# Altium integrated library Wieson HDMI.IntLib: 6 symbols
Pins are listed as number, name and electrical type; pins without a type are passive.

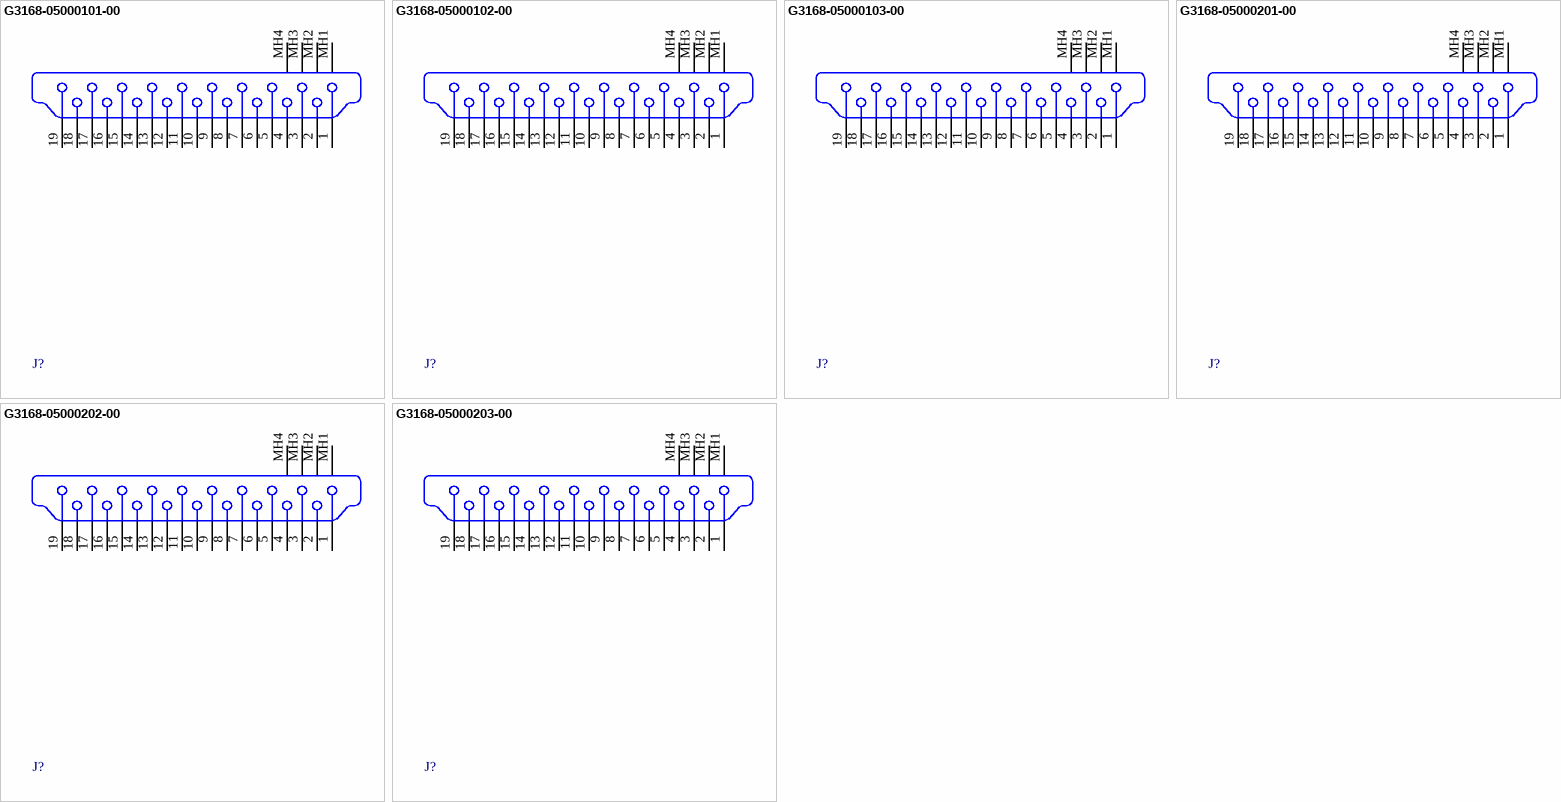
[diagram p0: symbols G3168-05000101-00 to G3168-05000203-00]

## G3168-05000101-00
designator J?
mini-HDMI ver1.3 Type C, Surface Mount, 19-Position, 3u" Au Terminal Plating, without Post; PCB_Layout: Complies with manufacturer's recommendation.; Published: 21-Sep-2007; DatasheetVersion: rev1, Nov-2006; PackageReference: mini-HDMI; Publisher: Altium Limited; PackageDescription: HDMI 1.3 Type C, SM, 19 Position, Female, Right Angle, Body 7.9 x 11.2 x 3.3 mm (LxWxH); ComponentLink1Description: Manufacturer Link; ComponentLink1URL: http://www.wieson.com/; ComponentLink2Description: Datasheet; ComponentLink2URL: http://www.wieson.com/drawing_dwn.php?ID=990&Field=ProImg
footprint mini-HDMI (Connector; mini-HDMI, SM, 19 Position, Right Angle, Body 7.9 x 11.2 x 3.3 mm (LxWxH))
signal-integrity model HDMI
pins: 1 "TMDS Data2+", 2 "TMDS Data2 Shield", 3 "TMDS Data2-", 4 "TMDS Data1+", 5 "TMDS Data1 Shield", 6 "TMDS Data1-", 7 "TMDS Data0+", 8 "TMDS Data0 Shield", 9 "TMDS Data0-", 10 "TMDS Clock+", 11 "TMDS Clock Shield", 12 "TMDS Clock-", 13 "CEC", 14 "Reserved (N/C on device)", 15 "SCL", 16 "SDA", 17 "DDC/CEC Ground", 18 "+5V Power", 19 "Hot Plug Detect", MH1 "Ground Plane (Shell)", MH2 "Ground Plane (Shell)", MH3 "Ground Plane (Shell)", MH4 "Ground Plane (Shell)"

## G3168-05000102-00
designator J?
mini-HDMI ver1.3 Type C, Surface Mount, 19-Position, 15u" Au Terminal Plating, without Post; PCB_Layout: Complies with manufacturer's recommendation.; Published: 21-Sep-2007; DatasheetVersion: rev1, Nov-2006; PackageReference: mini-HDMI; Publisher: Altium Limited; PackageDescription: HDMI 1.3 Type C, SM, 19 Position, Female, Right Angle, Body 7.9 x 11.2 x 3.3 mm (LxWxH); ComponentLink1Description: Manufacturer Link; ComponentLink1URL: http://www.wieson.com/; ComponentLink2Description: Datasheet; ComponentLink2URL: http://www.wieson.com/drawing_dwn.php?ID=990&Field=ProImg
footprint mini-HDMI (Connector; mini-HDMI, SM, 19 Position, Right Angle, Body 7.9 x 11.2 x 3.3 mm (LxWxH))
signal-integrity model HDMI
pins: 1 "TMDS Data2+", 2 "TMDS Data2 Shield", 3 "TMDS Data2-", 4 "TMDS Data1+", 5 "TMDS Data1 Shield", 6 "TMDS Data1-", 7 "TMDS Data0+", 8 "TMDS Data0 Shield", 9 "TMDS Data0-", 10 "TMDS Clock+", 11 "TMDS Clock Shield", 12 "TMDS Clock-", 13 "CEC", 14 "Reserved (N/C on device)", 15 "SCL", 16 "SDA", 17 "DDC/CEC Ground", 18 "+5V Power", 19 "Hot Plug Detect", MH1 "Ground Plane (Shell)", MH2 "Ground Plane (Shell)", MH3 "Ground Plane (Shell)", MH4 "Ground Plane (Shell)"

## G3168-05000103-00
designator J?
mini-HDMI ver1.3 Type C, Surface Mount, 19-Position, 30u" Au Terminal Plating, without Post; PCB_Layout: Complies with manufacturer's recommendation.; Published: 21-Sep-2007; DatasheetVersion: rev1, Nov-2006; PackageReference: mini-HDMI; Publisher: Altium Limited; PackageDescription: HDMI 1.3 Type C, SM, 19 Position, Female, Right Angle, Body 7.9 x 11.2 x 3.3 mm (LxWxH); ComponentLink1Description: Manufacturer Link; ComponentLink1URL: http://www.wieson.com/; ComponentLink2Description: Datasheet; ComponentLink2URL: http://www.wieson.com/drawing_dwn.php?ID=990&Field=ProImg
footprint mini-HDMI (Connector; mini-HDMI, SM, 19 Position, Right Angle, Body 7.9 x 11.2 x 3.3 mm (LxWxH))
signal-integrity model HDMI
pins: 1 "TMDS Data2+", 2 "TMDS Data2 Shield", 3 "TMDS Data2-", 4 "TMDS Data1+", 5 "TMDS Data1 Shield", 6 "TMDS Data1-", 7 "TMDS Data0+", 8 "TMDS Data0 Shield", 9 "TMDS Data0-", 10 "TMDS Clock+", 11 "TMDS Clock Shield", 12 "TMDS Clock-", 13 "CEC", 14 "Reserved (N/C on device)", 15 "SCL", 16 "SDA", 17 "DDC/CEC Ground", 18 "+5V Power", 19 "Hot Plug Detect", MH1 "Ground Plane (Shell)", MH2 "Ground Plane (Shell)", MH3 "Ground Plane (Shell)", MH4 "Ground Plane (Shell)"

## G3168-05000201-00
designator J?
mini-HDMI ver1.3 Type C, Surface Mount, 19-Position, 3u" Au Terminal Plating, with Post; PCB_Layout: Complies with manufacturer's recommendation.; Published: 21-Sep-2007; DatasheetVersion: rev1, Nov-2006; PackageReference: mini-HDMI_post; Publisher: Altium Limited; PackageDescription: HDMI 1.3 Type C, SM, 19 Position, Female, Right Angle, Body 7.9 x 11.2 x 3.3 mm (LxWxH); ComponentLink1Description: Manufacturer Link; ComponentLink1URL: http://www.wieson.com/; ComponentLink2Description: Datasheet; ComponentLink2URL: http://www.wieson.com/drawing_dwn.php?ID=990&Field=ProImg
footprint mini-HDMI_post (Connector; mini-HDMI, SM, 19 Position, Right Angle, Body 7.9 x 11.2 x 3.3 mm (LxWxH), post)
signal-integrity model HDMI
pins: 1 "TMDS Data2+", 2 "TMDS Data2 Shield", 3 "TMDS Data2-", 4 "TMDS Data1+", 5 "TMDS Data1 Shield", 6 "TMDS Data1-", 7 "TMDS Data0+", 8 "TMDS Data0 Shield", 9 "TMDS Data0-", 10 "TMDS Clock+", 11 "TMDS Clock Shield", 12 "TMDS Clock-", 13 "CEC", 14 "Reserved (N/C on device)", 15 "SCL", 16 "SDA", 17 "DDC/CEC Ground", 18 "+5V Power", 19 "Hot Plug Detect", MH1 "Ground Plane (Shell)", MH2 "Ground Plane (Shell)", MH3 "Ground Plane (Shell)", MH4 "Ground Plane (Shell)"

## G3168-05000202-00
designator J?
mini-HDMI ver1.3 Type C, Surface Mount, 19-Position, 15u" Au Terminal Plating, with Post; PCB_Layout: Complies with manufacturer's recommendation.; Published: 21-Sep-2007; DatasheetVersion: rev1, Nov-2006; PackageReference: mini-HDMI_post; Publisher: Altium Limited; PackageDescription: HDMI 1.3 Type C, SM, 19 Position, Female, Right Angle, Body 7.9 x 11.2 x 3.3 mm (LxWxH); ComponentLink1Description: Manufacturer Link; ComponentLink1URL: http://www.wieson.com/; ComponentLink2Description: Datasheet; ComponentLink2URL: http://www.wieson.com/drawing_dwn.php?ID=990&Field=ProImg
footprint mini-HDMI_post (Connector; mini-HDMI, SM, 19 Position, Right Angle, Body 7.9 x 11.2 x 3.3 mm (LxWxH), post)
signal-integrity model HDMI
pins: 1 "TMDS Data2+", 2 "TMDS Data2 Shield", 3 "TMDS Data2-", 4 "TMDS Data1+", 5 "TMDS Data1 Shield", 6 "TMDS Data1-", 7 "TMDS Data0+", 8 "TMDS Data0 Shield", 9 "TMDS Data0-", 10 "TMDS Clock+", 11 "TMDS Clock Shield", 12 "TMDS Clock-", 13 "CEC", 14 "Reserved (N/C on device)", 15 "SCL", 16 "SDA", 17 "DDC/CEC Ground", 18 "+5V Power", 19 "Hot Plug Detect", MH1 "Ground Plane (Shell)", MH2 "Ground Plane (Shell)", MH3 "Ground Plane (Shell)", MH4 "Ground Plane (Shell)"

## G3168-05000203-00
designator J?
mini-HDMI ver1.3 Type C, Surface Mount, 19-Position, 20u" Au Terminal Plating, with Post; PCB_Layout: Complies with manufacturer's recommendation.; Published: 21-Sep-2007; DatasheetVersion: rev1, Nov-2006; PackageReference: mini-HDMI_post; Publisher: Altium Limited; PackageDescription: HDMI 1.3 Type C, SM, 19 Position, Female, Right Angle, Body 7.9 x 11.2 x 3.3 mm (LxWxH); ComponentLink1Description: Manufacturer Link; ComponentLink1URL: http://www.wieson.com/; ComponentLink2Description: Datasheet; ComponentLink2URL: http://www.wieson.com/drawing_dwn.php?ID=990&Field=ProImg
footprint mini-HDMI_post (Connector; mini-HDMI, SM, 19 Position, Right Angle, Body 7.9 x 11.2 x 3.3 mm (LxWxH), post)
signal-integrity model HDMI
pins: 1 "TMDS Data2+", 2 "TMDS Data2 Shield", 3 "TMDS Data2-", 4 "TMDS Data1+", 5 "TMDS Data1 Shield", 6 "TMDS Data1-", 7 "TMDS Data0+", 8 "TMDS Data0 Shield", 9 "TMDS Data0-", 10 "TMDS Clock+", 11 "TMDS Clock Shield", 12 "TMDS Clock-", 13 "CEC", 14 "Reserved (N/C on device)", 15 "SCL", 16 "SDA", 17 "DDC/CEC Ground", 18 "+5V Power", 19 "Hot Plug Detect", MH1 "Ground Plane (Shell)", MH2 "Ground Plane (Shell)", MH3 "Ground Plane (Shell)", MH4 "Ground Plane (Shell)"